# Altium footprint library B38G3RGB-10D0003H2U1930.PcbLib: 1 footprints
Each footprint in its own frame and in the unit in brackets; x right, y up, seen from the top. Pads: shape width x height; smd on the part's side, far side on the other; paste and mask are expansions set on the pad; w line width, h text height; cw(c..) or ccw(c..) is an arc to the next point about the centre after c.
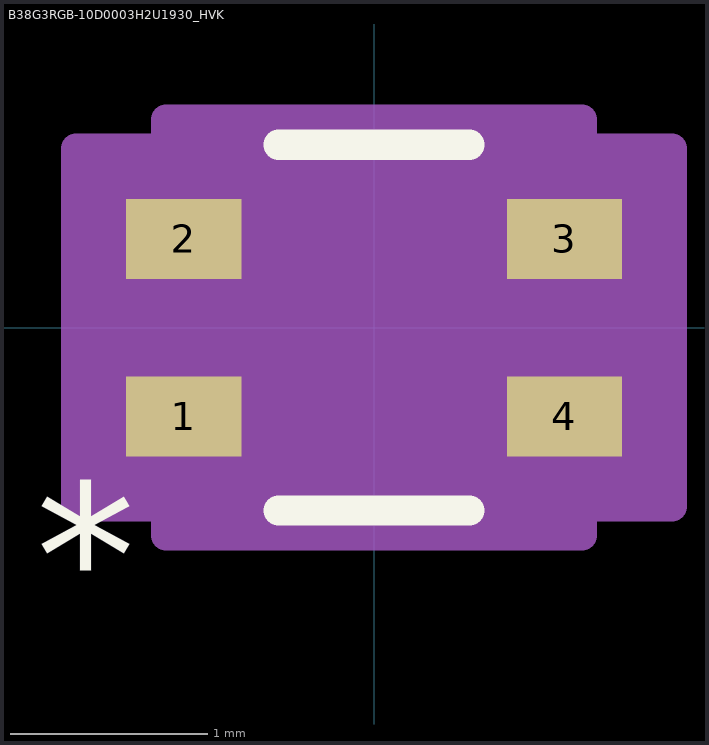
[diagram p0: the footprint, top view; thin cyan lines are the x and y axes]

## B38G3RGB-10D0003H2U1930_HVK [mil]
pads (4):
  rect 23x16 smd paste+0 mask+0: 1(-38,-17.72) 2(-38,17.72) 3(38,17.72) 4(38,-17.72)
Top Overlay:
  lines w6: -19.06,-36.5 19.06,-36.5 ; -19.06,36.5 19.06,36.5
  text "*" at -67.5,-60 h50
Mechanical 13:
  lines w0: -31.5,-21.72 ccw(c-31.5,-17.72) -31.5,-13.72 ; -31.5,13.72 ccw(c-31.5,17.72) -31.5,21.72 ; 31.5,-21.72 cw(c31.5,-17.72) 31.5,-13.72 ; 31.5,13.72 cw(c31.5,17.72) 31.5,21.72
  lines w1: -31.5,-21.72 -31.5,-31.5 31.5,-31.5 31.5,-21.72 ; -31.5,-13.72 -31.5,13.72 ; -31.5,21.5 -21.5,31.5 ; -31.5,21.72 -31.5,31.5 31.5,31.5 31.5,21.72 ; 31.5,-13.72 31.5,13.72
  text "*" at -19,-36.5 h50
Mechanical 15:
  region: -41.5,-35.72 -59.5,-35.72 -59.5,35.72 -41.5,35.72 -41.5,41.5 41.5,41.5 41.5,35.72 59.5,35.72 59.5,-35.72 41.5,-35.72 41.5,-41.5 -41.5,-41.5
  lines w6: -59.5,-35.72 -59.5,35.72 -41.5,35.72 -41.5,41.5 41.5,41.5 41.5,35.72 59.5,35.72 59.5,-35.72 41.5,-35.72 41.5,-41.5 -41.5,-41.5 -41.5,-35.72 -59.5,-35.72